# Altium footprint library DO-214AA.PcbLib: 1 footprints
Each footprint in its own frame and in the unit in brackets; x right, y up, seen from the top. Pads: shape width x height; smd on the part's side, far side on the other; paste and mask are expansions set on the pad; w line width, h text height; cw(c..) or ccw(c..) is an arc to the next point about the centre after c.
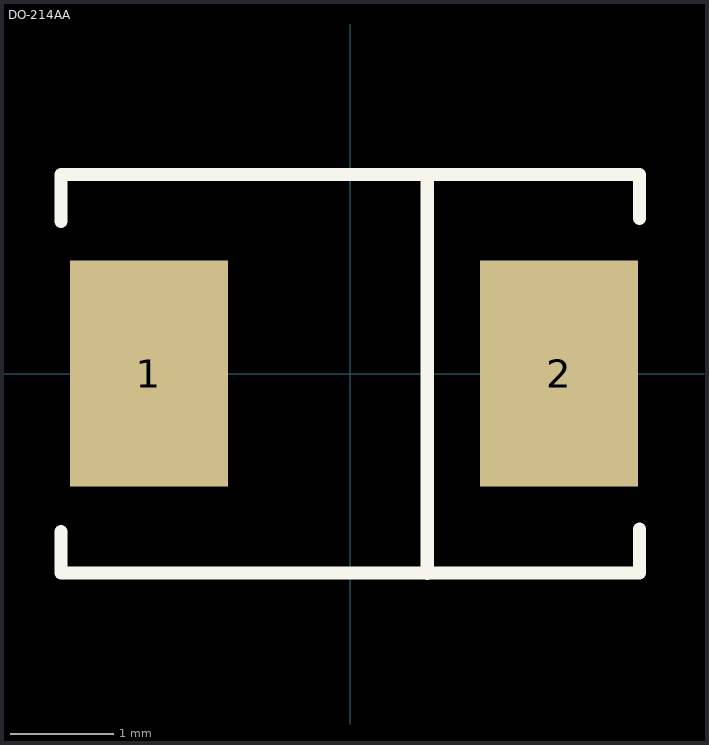
[diagram p0: the footprint, top view; thin cyan lines are the x and y axes]

## DO-214AA [mil]
height 45
pads (2):
  rect 60x86 smd: 1(-76.58,0.09) 2(79.42,0.09)
TopOverlay:
  lines w5: -110,-60 -110,-75.8 110,-75.8 110,-59 ; -110,58 -110,75.8 110,75.8 110,59 ; 29.29,-76 29.29,75.81
3D body: height 89.57, standoff -1.18, extent -106.48,-71.45 106.11,70.29